# EAGLE library part STM32L471RGT6 (library lib)
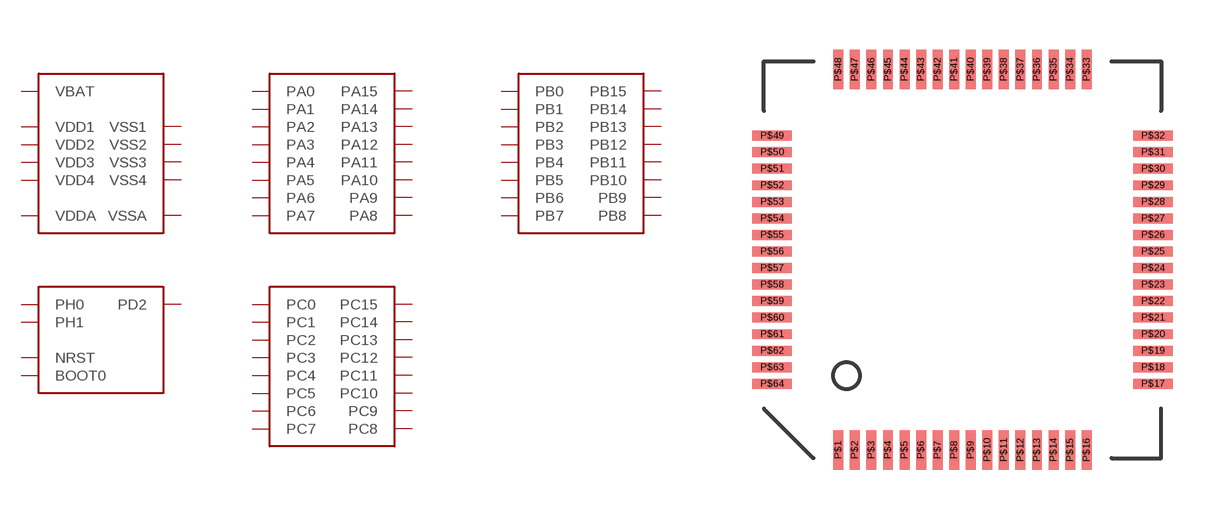
[diagram p0: symbol with the pads of LQFP64; footprint LQFP64]

Designator prefix -; gates G$1=STM32L471RGT6_POWER G$2=STM32L471RGT6_A G$3=STM32L471RGT6_B G$4=STM32L471RGT6_C G$5=STM32L471RGT6_MISC

## STM32L471RGT6  [LQFP64]
P$1  G$1:VBAT
P$2  G$4:PC13
P$3  G$4:PC14
P$4  G$4:PC15
P$5  G$5:PH0
P$6  G$5:PH1
P$7  G$5:NRST
P$8  G$4:PC0
P$9  G$4:PC1
P$10  G$4:PC2
P$11  G$4:PC3
P$12  G$1:VSSA
P$13  G$1:VDDA
P$14  G$2:PA0
P$15  G$2:PA1
P$16  G$2:PA2
P$17  G$2:PA3
P$18  G$1:VSS1
P$19  G$1:VDD1
P$20  G$2:PA4
P$21  G$2:PA5
P$22  G$2:PA6
P$23  G$2:PA7
P$24  G$4:PC4
P$25  G$4:PC5
P$26  G$3:PB0
P$27  G$3:PB1
P$28  G$3:PB2
P$29  G$3:PB10
P$30  G$3:PB11
P$31  G$1:VSS2
P$32  G$1:VDD2
P$33  G$3:PB12
P$34  G$3:PB13
P$35  G$3:PB14
P$36  G$3:PB15
P$37  G$4:PC6
P$38  G$4:PC7
P$39  G$4:PC8
P$40  G$4:PC9
P$41  G$2:PA8
P$42  G$2:PA9
P$43  G$2:PA10
P$44  G$2:PA11
P$45  G$2:PA12
P$46  G$2:PA13
P$47  G$1:VSS3
P$48  G$1:VDD3
P$49  G$2:PA14
P$50  G$2:PA15
P$51  G$4:PC10
P$52  G$4:PC11
P$53  G$4:PC12
P$54  G$5:PD2
P$55  G$3:PB3
P$56  G$3:PB4
P$57  G$3:PB5
P$58  G$3:PB6
P$59  G$3:PB7
P$60  G$5:BOOT0
P$61  G$3:PB8
P$62  G$3:PB9
P$63  G$1:VSS4
P$64  G$1:VDD4

## Footprint LQFP64 (pad centres in mm)
smd 0.3 x 1.2: P$1 -3.75,-5.75; P$2 -3.25,-5.75; P$3 -2.75,-5.75; P$4 -2.25,-5.75; P$5 -1.75,-5.75; P$6 -1.25,-5.75; P$7 -0.75,-5.75; P$8 -0.25,-5.75; P$9 0.25,-5.75; P$10 0.75,-5.75; P$11 1.25,-5.75; P$12 1.75,-5.75; P$13 2.25,-5.75; P$14 2.75,-5.75; P$15 3.25,-5.75; P$16 3.75,-5.75; P$33 3.75,5.75; P$34 3.25,5.75; P$35 2.75,5.75; P$36 2.25,5.75; P$37 1.75,5.75; P$38 1.25,5.75; P$39 0.75,5.75; P$40 0.25,5.75; P$41 -0.25,5.75; P$42 -0.75,5.75; P$43 -1.25,5.75; P$44 -1.75,5.75; P$45 -2.25,5.75; P$46 -2.75,5.75; P$47 -3.25,5.75; P$48 -3.75,5.75
smd 1.2 x 0.3: P$17 5.75,-3.75; P$18 5.75,-3.25; P$19 5.75,-2.75; P$20 5.75,-2.25; P$21 5.75,-1.75; P$22 5.75,-1.25; P$23 5.75,-0.75; P$24 5.75,-0.25; P$25 5.75,0.25; P$26 5.75,0.75; P$27 5.75,1.25; P$28 5.75,1.75; P$29 5.75,2.25; P$30 5.75,2.75; P$31 5.75,3.25; P$32 5.75,3.75; P$49 -5.75,3.75; P$50 -5.75,3.25; P$51 -5.75,2.75; P$52 -5.75,2.25; P$53 -5.75,1.75; P$54 -5.75,1.25; P$55 -5.75,0.75; P$56 -5.75,0.25; P$57 -5.75,-0.25; P$58 -5.75,-0.75; P$59 -5.75,-1.25; P$60 -5.75,-1.75; P$61 -5.75,-2.25; P$62 -5.75,-2.75; P$63 -5.75,-3.25; P$64 -5.75,-3.75